# Altium integrated library TI_Logic_Little_Logic.IntLib: 1164 symbols (part 19 of 35)
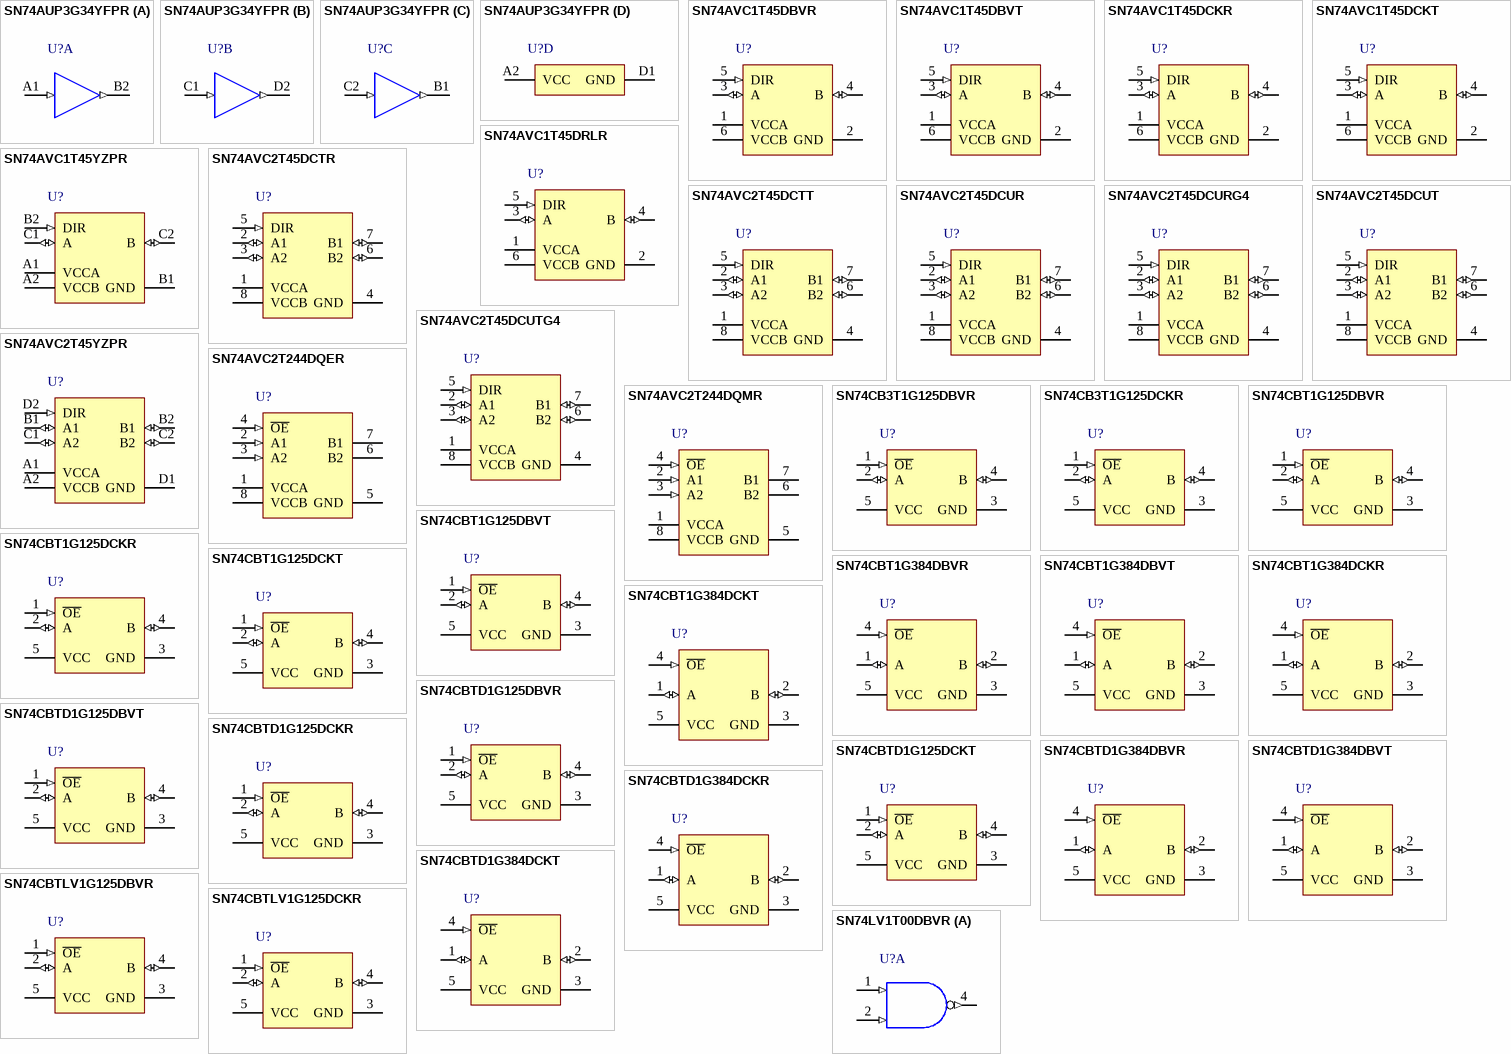
[diagram p78: symbols SN74AUP3G34YFPR to SN74LV1T00DBVR]

## SN74CBTD1G125DCKR
designator U?
Single FET Bus Switch With Level Shifting, DCK0005A, LARGE T&R; Generic Part Number: SN74CBTD1G125; Manufacturer: Texas Instruments; PartNumber: SN74CBTD1G125DCKR; VCC(Min)(V): 4.5; VCC(Max)(V): 5.5; Output Type: CMOS; Logic: True; ICC @ Nom Voltage(Max)(mA): 1.5; Input Type: CMOS/TTL; Bits(#): 1; F @ Nom Voltage(Max)(Mhz): 10; Rating: Catalog; Technology Family: CBT; Voltage(Nom)(V): 5; Schmitt Trigger: No; Sub-Family: Digital Switch/Mux/Demux; Switch Configuration: SPST; tpd @ Nom Voltage(Max)(ns): 0.25; DatasheetVersion: SCDS063L; PackageReference: DCK0005A; Supplier 1: Mouser; Supplier Part Number 1: 595-SNCBTD1G125DCKR; Supplier 2: Digi-Key; Supplier Part Number 2: 296-6476-2-ND; Supplier 3: Digi-Key; Supplier Part Number 3: 296-6476-1-ND; Supplier 4: Digi-Key; Supplier Part Number 4: 296-6476-6-ND; Operating Temperature Range(C): -40 to 85; 3-State Output: No; ComponentLink1Description: Manufacturer URL; ComponentLink1URL: http://www.ti.com/; ComponentLink2Description: Datasheet; ComponentLink2URL: http://www.ti.com/lit/ds/symlink/sn74cbtd1g125.pdf
footprint DCK0005A_N (SOT23, 5-Leads, Body 2.15x1.4mm, Pitch 0.65mm, IPC Medium Density)
footprint DCK0005A_M (SOT23, 5-Leads, Body 2.15x1.4mm, Pitch 0.65mm, IPC Low Density)
footprint DCK0005A_L (SOT23, 5-Leads, Body 2.15x1.4mm, Pitch 0.65mm, IPC High Density)
pins: 1 ~{OE} (in), 2 A (io), 3 GND (power), 4 B (io), 5 VCC (power)

## SN74CBTD1G125DCKT
designator U?
Single FET Bus Switch With Level Shifting, DCK0005A, SMALL T&R; Generic Part Number: SN74CBTD1G125; Manufacturer: Texas Instruments; PartNumber: SN74CBTD1G125DCKT; VCC(Min)(V): 4.5; VCC(Max)(V): 5.5; Output Type: CMOS; Logic: True; ICC @ Nom Voltage(Max)(mA): 1.5; Input Type: CMOS/TTL; Bits(#): 1; F @ Nom Voltage(Max)(Mhz): 10; Rating: Catalog; Technology Family: CBT; Voltage(Nom)(V): 5; Schmitt Trigger: No; Sub-Family: Digital Switch/Mux/Demux; Switch Configuration: SPST; tpd @ Nom Voltage(Max)(ns): 0.25; DatasheetVersion: SCDS063L; PackageReference: DCK0005A; Supplier 1: Mouser; Supplier Part Number 1: 595-SN74CBTD1G125DCK; Supplier 2: Digi-Key; Supplier Part Number 2: SN74CBTD1G125DCKT-ND; Operating Temperature Range(C): -40 to 85; 3-State Output: No; ComponentLink1Description: Manufacturer URL; ComponentLink1URL: http://www.ti.com/; ComponentLink2Description: Datasheet; ComponentLink2URL: http://www.ti.com/lit/ds/symlink/sn74cbtd1g125.pdf
footprint DCK0005A_N (SOT23, 5-Leads, Body 2.15x1.4mm, Pitch 0.65mm, IPC Medium Density)
footprint DCK0005A_M (SOT23, 5-Leads, Body 2.15x1.4mm, Pitch 0.65mm, IPC Low Density)
footprint DCK0005A_L (SOT23, 5-Leads, Body 2.15x1.4mm, Pitch 0.65mm, IPC High Density)
pins: 1 ~{OE} (in), 2 A (io), 3 GND (power), 4 B (io), 5 VCC (power)

## SN74CBTD1G384DBVR
designator U?
Single FET Bus Switch With Level Shifting, DBV0005A, LARGE T&R; Generic Part Number: SN74CBTD1G384; Manufacturer: Texas Instruments; PartNumber: SN74CBTD1G384DBVR; VCC(Min)(V): 4.5; VCC(Max)(V): 5.5; Output Type: CMOS; Logic: True; ICC @ Nom Voltage(Max)(mA): 1.5; Input Type: CMOS/TTL; Bits(#): 1; F @ Nom Voltage(Max)(Mhz): 10; Rating: Catalog; Technology Family: CBT; Voltage(Nom)(V): 5; Schmitt Trigger: No; Sub-Family: Digital Switch/Mux/Demux; Switch Configuration: SPST; tpd @ Nom Voltage(Max)(ns): 0.25; DatasheetVersion: SCDS066K; PackageReference: DBV0005A; Supplier 1: Mouser; Supplier Part Number 1: 595-SNCBTD1G384DBVR; Supplier 2: Digi-Key; Supplier Part Number 2: 296-12415-2-ND; Supplier 3: Digi-Key; Supplier Part Number 3: 296-12415-1-ND; Supplier 4: Digi-Key; Supplier Part Number 4: 296-12415-6-ND; Operating Temperature Range(C): -40 to 85; 3-State Output: No; ComponentLink1Description: Manufacturer URL; ComponentLink1URL: http://www.ti.com/; ComponentLink2Description: Datasheet; ComponentLink2URL: http://www.ti.com/lit/ds/symlink/sn74cbtd1g384.pdf
footprint DBV0005A_N (SOT23, 5-Leads, Body 3.05x1.75mm, Pitch 0.95mm, IPC Medium Density)
footprint DBV0005A_M (SOT23, 5-Leads, Body 3.05x1.75mm, Pitch 0.95mm, IPC Low Density)
footprint DBV0005A_L (SOT23, 5-Leads, Body 3.05x1.75mm, Pitch 0.95mm, IPC High Density)
pins: 1 A (io), 2 B (io), 3 GND (power), 4 ~{OE} (in), 5 VCC (power)

## SN74CBTD1G384DBVT
designator U?
Single FET Bus Switch With Level Shifting, DBV0005A, SMALL T&R; Generic Part Number: SN74CBTD1G384; Manufacturer: Texas Instruments; PartNumber: SN74CBTD1G384DBVT; VCC(Min)(V): 4.5; VCC(Max)(V): 5.5; Output Type: CMOS; Logic: True; ICC @ Nom Voltage(Max)(mA): 1.5; Input Type: CMOS/TTL; Bits(#): 1; F @ Nom Voltage(Max)(Mhz): 10; Rating: Catalog; Technology Family: CBT; Voltage(Nom)(V): 5; Schmitt Trigger: No; Sub-Family: Digital Switch/Mux/Demux; Switch Configuration: SPST; tpd @ Nom Voltage(Max)(ns): 0.25; DatasheetVersion: SCDS066K; PackageReference: DBV0005A; Supplier 1: Mouser; Supplier Part Number 1: 595-SN74CBTD1G384DBV; Supplier 2: Digi-Key; Supplier Part Number 2: 296-23254-2-ND; Supplier 3: Digi-Key; Supplier Part Number 3: 296-23254-1-ND; Supplier 4: Digi-Key; Supplier Part Number 4: 296-23254-6-ND; Operating Temperature Range(C): -40 to 85; 3-State Output: No; ComponentLink1Description: Manufacturer URL; ComponentLink1URL: http://www.ti.com/; ComponentLink2Description: Datasheet; ComponentLink2URL: http://www.ti.com/lit/ds/symlink/sn74cbtd1g384.pdf
footprint DBV0005A_N (SOT23, 5-Leads, Body 3.05x1.75mm, Pitch 0.95mm, IPC Medium Density)
footprint DBV0005A_M (SOT23, 5-Leads, Body 3.05x1.75mm, Pitch 0.95mm, IPC Low Density)
footprint DBV0005A_L (SOT23, 5-Leads, Body 3.05x1.75mm, Pitch 0.95mm, IPC High Density)
pins: 1 A (io), 2 B (io), 3 GND (power), 4 ~{OE} (in), 5 VCC (power)

## SN74CBTD1G384DCKR
designator U?
Single FET Bus Switch With Level Shifting, DCK0005A, LARGE T&R; Generic Part Number: SN74CBTD1G384; Manufacturer: Texas Instruments; PartNumber: SN74CBTD1G384DCKR; VCC(Min)(V): 4.5; VCC(Max)(V): 5.5; Output Type: CMOS; Logic: True; ICC @ Nom Voltage(Max)(mA): 1.5; Input Type: CMOS/TTL; Bits(#): 1; F @ Nom Voltage(Max)(Mhz): 10; Rating: Catalog; Technology Family: CBT; Voltage(Nom)(V): 5; Schmitt Trigger: No; Sub-Family: Digital Switch/Mux/Demux; Switch Configuration: SPST; tpd @ Nom Voltage(Max)(ns): 0.25; DatasheetVersion: SCDS066K; PackageReference: DCK0005A; Supplier 1: Mouser; Supplier Part Number 1: 595-SNCBTD1G384DCKR; Supplier 2: Digi-Key; Supplier Part Number 2: 296-12416-2-ND; Supplier 3: Digi-Key; Supplier Part Number 3: 296-12416-1-ND; Supplier 4: Digi-Key; Supplier Part Number 4: 296-12416-6-ND; Operating Temperature Range(C): -40 to 85; 3-State Output: No; ComponentLink1Description: Manufacturer URL; ComponentLink1URL: http://www.ti.com/; ComponentLink2Description: Datasheet; ComponentLink2URL: http://www.ti.com/lit/ds/symlink/sn74cbtd1g384.pdf
footprint DCK0005A_N (SOT23, 5-Leads, Body 2.15x1.4mm, Pitch 0.65mm, IPC Medium Density)
footprint DCK0005A_M (SOT23, 5-Leads, Body 2.15x1.4mm, Pitch 0.65mm, IPC Low Density)
footprint DCK0005A_L (SOT23, 5-Leads, Body 2.15x1.4mm, Pitch 0.65mm, IPC High Density)
pins: 1 A (io), 2 B (io), 3 GND (power), 4 ~{OE} (in), 5 VCC (power)

## SN74CBTD1G384DCKT
designator U?
Single FET Bus Switch With Level Shifting, DCK0005A, SMALL T&R; Generic Part Number: SN74CBTD1G384; Manufacturer: Texas Instruments; PartNumber: SN74CBTD1G384DCKT; VCC(Min)(V): 4.5; VCC(Max)(V): 5.5; Output Type: CMOS; Logic: True; ICC @ Nom Voltage(Max)(mA): 1.5; Input Type: CMOS/TTL; Bits(#): 1; F @ Nom Voltage(Max)(Mhz): 10; Rating: Catalog; Technology Family: CBT; Voltage(Nom)(V): 5; Schmitt Trigger: No; Sub-Family: Digital Switch/Mux/Demux; Switch Configuration: SPST; tpd @ Nom Voltage(Max)(ns): 0.25; DatasheetVersion: SCDS066K; PackageReference: DCK0005A; Supplier 1: Mouser; Supplier Part Number 1: 595-SN74CBTD1G384DCK; Supplier 2: Digi-Key; Supplier Part Number 2: SN74CBTD1G384DCKT-ND; Operating Temperature Range(C): -40 to 85; 3-State Output: No; ComponentLink1Description: Manufacturer URL; ComponentLink1URL: http://www.ti.com/; ComponentLink2Description: Datasheet; ComponentLink2URL: http://www.ti.com/lit/ds/symlink/sn74cbtd1g384.pdf
footprint DCK0005A_N (SOT23, 5-Leads, Body 2.15x1.4mm, Pitch 0.65mm, IPC Medium Density)
footprint DCK0005A_M (SOT23, 5-Leads, Body 2.15x1.4mm, Pitch 0.65mm, IPC Low Density)
footprint DCK0005A_L (SOT23, 5-Leads, Body 2.15x1.4mm, Pitch 0.65mm, IPC High Density)
pins: 1 A (io), 2 B (io), 3 GND (power), 4 ~{OE} (in), 5 VCC (power)

## SN74CBTLV1G125DBVR
designator U?
Low-Voltage Single FET Bus Switch, DBV0005A, LARGE T&R; Generic Part Number: SN74CBTLV1G125; Manufacturer: Texas Instruments; PartNumber: SN74CBTLV1G125DBVR; VCC(Min)(V): 2.3; VCC(Max)(V): 3.6; Output Type: CMOS; Logic: True; ICC @ Nom Voltage(Max)(mA): 0.01; Input Type: LV-CMOS; Bits(#): 1; F @ Nom Voltage(Max)(Mhz): 200; Rating: Catalog; Technology Family: CBTLV; Voltage(Nom)(V): 3.3; Schmitt Trigger: No; Sub-Family: Analog Switch; Switch Configuration: SPST; tpd @ Nom Voltage(Max)(ns): 0.25; DatasheetVersion: SCDS057H; PackageReference: DBV0005A; Supplier 1: Mouser; Supplier Part Number 1: 595-SNCBTLV1G125DBVR; Supplier 2: Digi-Key; Supplier Part Number 2: 296-9109-2-ND; Supplier 3: Digi-Key; Supplier Part Number 3: 296-9109-1-ND; Supplier 4: Digi-Key; Supplier Part Number 4: 296-9109-6-ND; Operating Temperature Range(C): -40 to 85; Channels(#): 1; 3-State Output: No; ComponentLink1Description: Manufacturer URL; ComponentLink1URL: http://www.ti.com/; ComponentLink2Description: Datasheet; ComponentLink2URL: http://www.ti.com/lit/ds/symlink/sn74cbtlv1g125.pdf
footprint DBV0005A_N (SOT23, 5-Leads, Body 3.05x1.75mm, Pitch 0.95mm, IPC Medium Density)
footprint DBV0005A_M (SOT23, 5-Leads, Body 3.05x1.75mm, Pitch 0.95mm, IPC Low Density)
footprint DBV0005A_L (SOT23, 5-Leads, Body 3.05x1.75mm, Pitch 0.95mm, IPC High Density)
pins: 1 ~{OE} (in), 2 A (io), 3 GND (power), 4 B (io), 5 VCC (power)

## SN74CBTLV1G125DCKR
designator U?
Low-Voltage Single FET Bus Switch, DCK0005A, LARGE T&R; Generic Part Number: SN74CBTLV1G125; Manufacturer: Texas Instruments; PartNumber: SN74CBTLV1G125DCKR; VCC(Min)(V): 2.3; VCC(Max)(V): 3.6; Output Type: CMOS; Logic: True; ICC @ Nom Voltage(Max)(mA): 0.01; Input Type: LV-CMOS; Bits(#): 1; F @ Nom Voltage(Max)(Mhz): 200; Rating: Catalog; Technology Family: CBTLV; Voltage(Nom)(V): 3.3; Schmitt Trigger: No; Sub-Family: Analog Switch; Switch Configuration: SPST; tpd @ Nom Voltage(Max)(ns): 0.25; DatasheetVersion: SCDS057H; PackageReference: DCK0005A; Supplier 1: Mouser; Supplier Part Number 1: 595-SNCBTLV1G125DCKR; Supplier 2: Digi-Key; Supplier Part Number 2: 296-9110-2-ND; Supplier 3: Digi-Key; Supplier Part Number 3: 296-9110-1-ND; Supplier 4: Digi-Key; Supplier Part Number 4: 296-9110-6-ND; Operating Temperature Range(C): -40 to 85; Channels(#): 1; 3-State Output: No; ComponentLink1Description: Manufacturer URL; ComponentLink1URL: http://www.ti.com/; ComponentLink2Description: Datasheet; ComponentLink2URL: http://www.ti.com/lit/ds/symlink/sn74cbtlv1g125.pdf
footprint DCK0005A_N (SOT23, 5-Leads, Body 2.15x1.4mm, Pitch 0.65mm, IPC Medium Density)
footprint DCK0005A_M (SOT23, 5-Leads, Body 2.15x1.4mm, Pitch 0.65mm, IPC Low Density)
footprint DCK0005A_L (SOT23, 5-Leads, Body 2.15x1.4mm, Pitch 0.65mm, IPC High Density)
pins: 1 ~{OE} (in), 2 A (io), 3 GND (power), 4 B (io), 5 VCC (power)

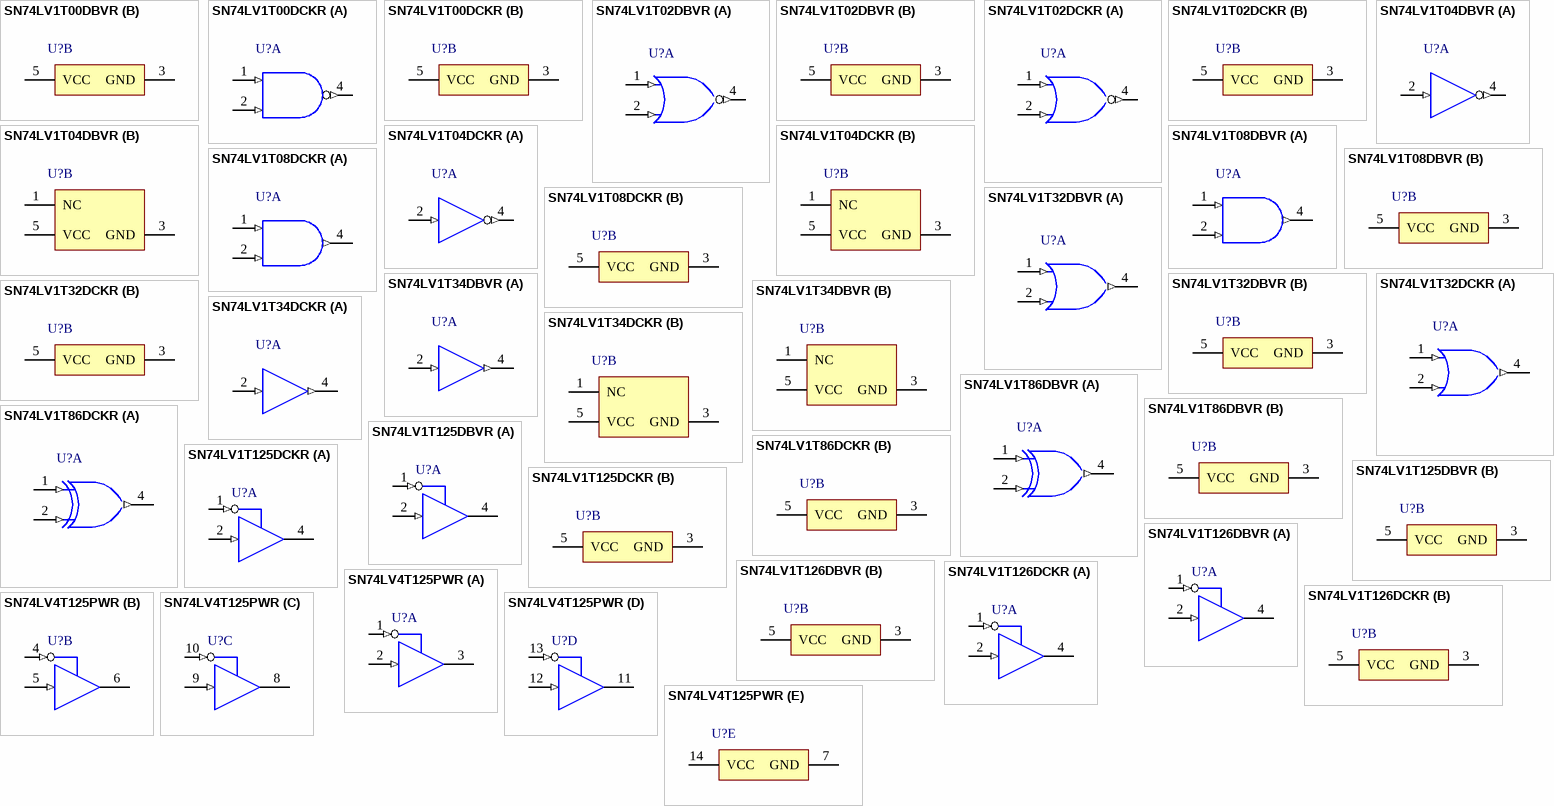
[diagram p32: symbols SN74LV1T00DBVR to SN74LV4T125PWR]

## SN74LV1T00DBVR
designator U?
Single power supply 2-input POSITIVE NAND gate logic level shifter, DBV0005A, LARGE T&R; Generic Part Number: SN74LV1T00; Manufacturer: Texas Instruments; PartNumber: SN74LV1T00DBVR; VCC(Min)(V): 1.6; VCC(Max)(V): 5.5; Output Type: CMOS; Logic: True; ICC @ Nom Voltage(Max)(mA): 0.01; Input Type: TTL; Bits(#): 1; F @ Nom Voltage(Max)(Mhz): 50; Rating: Catalog; Technology Family: LV1T; Voltage(Nom)(V): 1.8,2.5,3.3,5.5; Schmitt Trigger: No; Output Drive (IOL/IOH)(Max)(mA): 8/-8; Special Features: 1.8V to 3.3V Up Translation,3.3V to 1.8V Down Translation,5V Input Tolerant; 3-State Output: Yes; tpd @ Nom Voltage(Max)(ns): 13,7.5,5.5,7.0; DatasheetVersion: SCLS737B; PackageReference: DBV0005A; Supplier 1: Mouser; Supplier Part Number 1: 595-SN74LV1T00DBVR; Supplier 2: Digi-Key; Supplier Part Number 2: 296-40543-2-ND; Supplier 3: Digi-Key; Supplier Part Number 3: 296-40543-1-ND; Supplier 4: Digi-Key; Supplier Part Number 4: 296-40543-6-ND; Operating Temperature Range(C): -40 to 125; Sub-Family: NAND Gate; ComponentLink1Description: Manufacturer URL; ComponentLink1URL: http://www.ti.com/; ComponentLink2Description: Datasheet; ComponentLink2URL: http://www.ti.com/lit/ds/symlink/sn74lv1t00.pdf
footprint DBV0005A_N (SOT23, 5-Leads, Body 3.05x1.75mm, Pitch 0.95mm, IPC Medium Density)
footprint DBV0005A_M (SOT23, 5-Leads, Body 3.05x1.75mm, Pitch 0.95mm, IPC Low Density)
footprint DBV0005A_L (SOT23, 5-Leads, Body 3.05x1.75mm, Pitch 0.95mm, IPC High Density)
part A pins: 1 A (in) "Input A", 2 B (in) "Input B", 4 Y (out) "Output Y"
part B pins: 3 GND (power) "Ground Pin", 5 VCC (power) "Power Pin"

## SN74LV1T00DCKR
designator U?
Single power supply 2-input POSITIVE NAND gate logic level shifter, DCK0005A, LARGE T&R; Generic Part Number: SN74LV1T00; Manufacturer: Texas Instruments; PartNumber: SN74LV1T00DCKR; VCC(Min)(V): 1.6; VCC(Max)(V): 5.5; Output Type: CMOS; Logic: True; ICC @ Nom Voltage(Max)(mA): 0.01; Input Type: TTL; Bits(#): 1; F @ Nom Voltage(Max)(Mhz): 50; Rating: Catalog; Technology Family: LV1T; Voltage(Nom)(V): 1.8,2.5,3.3,5.5; Schmitt Trigger: No; Output Drive (IOL/IOH)(Max)(mA): 8/-8; Special Features: 1.8V to 3.3V Up Translation,3.3V to 1.8V Down Translation,5V Input Tolerant; 3-State Output: Yes; tpd @ Nom Voltage(Max)(ns): 13,7.5,5.5,7.0; DatasheetVersion: SCLS737B; PackageReference: DCK0005A; Supplier 1: Mouser; Supplier Part Number 1: 595-SN74LV1T00DCKR; Supplier 2: Digi-Key; Supplier Part Number 2: 296-40544-2-ND; Supplier 3: Digi-Key; Supplier Part Number 3: 296-40544-1-ND; Supplier 4: Digi-Key; Supplier Part Number 4: 296-40544-6-ND; Operating Temperature Range(C): -40 to 125; Sub-Family: NAND Gate; ComponentLink1Description: Manufacturer URL; ComponentLink1URL: http://www.ti.com/; ComponentLink2Description: Datasheet; ComponentLink2URL: http://www.ti.com/lit/ds/symlink/sn74lv1t00.pdf
footprint DCK0005A_N (SOT23, 5-Leads, Body 2.15x1.4mm, Pitch 0.65mm, IPC Medium Density)
footprint DCK0005A_M (SOT23, 5-Leads, Body 2.15x1.4mm, Pitch 0.65mm, IPC Low Density)
footprint DCK0005A_L (SOT23, 5-Leads, Body 2.15x1.4mm, Pitch 0.65mm, IPC High Density)
part A pins: 1 A (in) "Input A", 2 B (in) "Input B", 4 Y (out) "Output Y"
part B pins: 3 GND (power) "Ground Pin", 5 VCC (power) "Power Pin"

## SN74LV1T02DBVR
designator U?
Single Power Supply 2-input POSITIVE NOR GATE Logic Level Shifter, DBV0005A, LARGE T&R; Generic Part Number: SN74LV1T02; Manufacturer: Texas Instruments; PartNumber: SN74LV1T02DBVR; VCC(Min)(V): 1.6; VCC(Max)(V): 5.5; Output Type: CMOS; Logic: True; ICC @ Nom Voltage(Max)(mA): 0.01; Input Type: TTL; Bits(#): 1; F @ Nom Voltage(Max)(Mhz): 50; Rating: Catalog; Technology Family: LV1T; Voltage(Nom)(V): 1.8,2.5,3.3,5.5; Schmitt Trigger: No; Output Drive (IOL/IOH)(Max)(mA): 8/-8; Special Features: 1.8V to 3.3V Up Translation,3.3V to 1.8V Down Translation,5V Input Tolerant; 3-State Output: Yes; tpd @ Nom Voltage(Max)(ns): 13,7.5,5.5,7.0; DatasheetVersion: SCLS740A; PackageReference: DBV0005A; Supplier 1: Mouser; Supplier Part Number 1: 595-SN74LV1T02DBVR; Supplier 2: Digi-Key; Supplier Part Number 2: 296-37200-2-ND; Supplier 3: Digi-Key; Supplier Part Number 3: 296-37200-1-ND; Supplier 4: Digi-Key; Supplier Part Number 4: 296-37200-6-ND; Operating Temperature Range(C): -40 to 125; Sub-Family: NOR Gate; ComponentLink1Description: Manufacturer URL; ComponentLink1URL: http://www.ti.com/; ComponentLink2Description: Datasheet; ComponentLink2URL: http://www.ti.com/lit/ds/symlink/sn74lv1t02.pdf
footprint DBV0005A_N (SOT23, 5-Leads, Body 3.05x1.75mm, Pitch 0.95mm, IPC Medium Density)
footprint DBV0005A_M (SOT23, 5-Leads, Body 3.05x1.75mm, Pitch 0.95mm, IPC Low Density)
footprint DBV0005A_L (SOT23, 5-Leads, Body 3.05x1.75mm, Pitch 0.95mm, IPC High Density)
part A pins: 1 A (in) "Input A", 2 B (in) "Input B", 4 Y (out) "Output Y"
part B pins: 3 GND (power) "Ground Pin", 5 VCC (power) "Power Pin"

## SN74LV1T02DCKR
designator U?
Single Power Supply 2-input POSITIVE NOR GATE Logic Level Shifter, DCK0005A, LARGE T&R; Generic Part Number: SN74LV1T02; Manufacturer: Texas Instruments; PartNumber: SN74LV1T02DCKR; VCC(Min)(V): 1.6; VCC(Max)(V): 5.5; Output Type: CMOS; Logic: True; ICC @ Nom Voltage(Max)(mA): 0.01; Input Type: TTL; Bits(#): 1; F @ Nom Voltage(Max)(Mhz): 50; Rating: Catalog; Technology Family: LV1T; Voltage(Nom)(V): 1.8,2.5,3.3,5.5; Schmitt Trigger: No; Output Drive (IOL/IOH)(Max)(mA): 8/-8; Special Features: 1.8V to 3.3V Up Translation,3.3V to 1.8V Down Translation,5V Input Tolerant; 3-State Output: Yes; tpd @ Nom Voltage(Max)(ns): 13,7.5,5.5,7.0; DatasheetVersion: SCLS740A; PackageReference: DCK0005A; Supplier 1: Mouser; Supplier Part Number 1: 595-SN74LV1T02DCKR; Supplier 2: Digi-Key; Supplier Part Number 2: 296-37240-2-ND; Supplier 3: Digi-Key; Supplier Part Number 3: 296-37240-1-ND; Supplier 4: Digi-Key; Supplier Part Number 4: 296-37240-6-ND; Operating Temperature Range(C): -40 to 125; Sub-Family: NOR Gate; ComponentLink1Description: Manufacturer URL; ComponentLink1URL: http://www.ti.com/; ComponentLink2Description: Datasheet; ComponentLink2URL: http://www.ti.com/lit/ds/symlink/sn74lv1t02.pdf
footprint DCK0005A_N (SOT23, 5-Leads, Body 2.15x1.4mm, Pitch 0.65mm, IPC Medium Density)
footprint DCK0005A_M (SOT23, 5-Leads, Body 2.15x1.4mm, Pitch 0.65mm, IPC Low Density)
footprint DCK0005A_L (SOT23, 5-Leads, Body 2.15x1.4mm, Pitch 0.65mm, IPC High Density)
part A pins: 1 A (in) "Input A", 2 B (in) "Input B", 4 Y (out) "Output Y"
part B pins: 3 GND (power) "Ground Pin", 5 VCC (power) "Power Pin"

## SN74LV1T04DBVR
designator U?
Single Power Supply INVERTER Gate logic level shifter, DBV0005A, LARGE T&R; Generic Part Number: SN74LV1T04; Manufacturer: Texas Instruments; PartNumber: SN74LV1T04DBVR; VCC(Min)(V): 1.6; VCC(Max)(V): 5.5; Output Type: CMOS; Logic: Inverting; ICC @ Nom Voltage(Max)(mA): 0.01; Input Type: TTL; Bits(#): 1; F @ Nom Voltage(Max)(Mhz): 50; Rating: Catalog; Technology Family: LV1T; Voltage(Nom)(V): 1.8,2.5,3.3,5.5; Schmitt Trigger: No; Output Drive (IOL/IOH)(Max)(mA): 8/-8; Sub-Family: Inverting Buffer/Driver; Special Features: 1.8V to 3.3V Up Translation,3.3V to 1.8V Down Translation,5V Input Tolerant; 3-State Output: Yes; tpd @ Nom Voltage(Max)(ns): 13,7.5,5.5,7.0; DatasheetVersion: SCLS738B; PackageReference: DBV0005A; Supplier 1: Mouser; Supplier Part Number 1: 595-SN74LV1T04DBVR; Supplier 2: Digi-Key; Supplier Part Number 2: 296-39208-2-ND; Supplier 3: Digi-Key; Supplier Part Number 3: 296-39208-1-ND; Supplier 4: Digi-Key; Supplier Part Number 4: 296-39208-6-ND; Operating Temperature Range(C): -40 to 125; ComponentLink1Description: Manufacturer URL; ComponentLink1URL: http://www.ti.com/; ComponentLink2Description: Datasheet; ComponentLink2URL: http://www.ti.com/lit/ds/symlink/sn74lv1t04.pdf
footprint DBV0005A_N (SOT23, 5-Leads, Body 3.05x1.75mm, Pitch 0.95mm, IPC Medium Density)
footprint DBV0005A_M (SOT23, 5-Leads, Body 3.05x1.75mm, Pitch 0.95mm, IPC Low Density)
footprint DBV0005A_L (SOT23, 5-Leads, Body 3.05x1.75mm, Pitch 0.95mm, IPC High Density)
part A pins: 2 A (in) "Input A", 4 Y (out) "Output Y"
part B pins: 1 NC "Ground", 3 GND (power) "Ground Pin", 5 VCC (power) "Power Pin"

## SN74LV1T04DCKR
designator U?
Single Power Supply INVERTER Gate logic level shifter, DCK0005A, LARGE T&R; Generic Part Number: SN74LV1T04; Manufacturer: Texas Instruments; PartNumber: SN74LV1T04DCKR; VCC(Min)(V): 1.6; VCC(Max)(V): 5.5; Output Type: CMOS; Logic: Inverting; ICC @ Nom Voltage(Max)(mA): 0.01; Input Type: TTL; Bits(#): 1; F @ Nom Voltage(Max)(Mhz): 50; Rating: Catalog; Technology Family: LV1T; Voltage(Nom)(V): 1.8,2.5,3.3,5.5; Schmitt Trigger: No; Output Drive (IOL/IOH)(Max)(mA): 8/-8; Sub-Family: Inverting Buffer/Driver; Special Features: 1.8V to 3.3V Up Translation,3.3V to 1.8V Down Translation,5V Input Tolerant; 3-State Output: Yes; tpd @ Nom Voltage(Max)(ns): 13,7.5,5.5,7.0; DatasheetVersion: SCLS738B; PackageReference: DCK0005A; Supplier 1: Mouser; Supplier Part Number 1: 595-SN74LV1T04DCKR; Supplier 2: Digi-Key; Supplier Part Number 2: 296-39209-2-ND; Supplier 3: Digi-Key; Supplier Part Number 3: 296-39209-1-ND; Supplier 4: Digi-Key; Supplier Part Number 4: 296-39209-6-ND; Operating Temperature Range(C): -40 to 125; ComponentLink1Description: Manufacturer URL; ComponentLink1URL: http://www.ti.com/; ComponentLink2Description: Datasheet; ComponentLink2URL: http://www.ti.com/lit/ds/symlink/sn74lv1t04.pdf
footprint DCK0005A_N (SOT23, 5-Leads, Body 2.15x1.4mm, Pitch 0.65mm, IPC Medium Density)
footprint DCK0005A_M (SOT23, 5-Leads, Body 2.15x1.4mm, Pitch 0.65mm, IPC Low Density)
footprint DCK0005A_L (SOT23, 5-Leads, Body 2.15x1.4mm, Pitch 0.65mm, IPC High Density)
part A pins: 2 A (in) "Input A", 4 Y (out) "Output Y"
part B pins: 1 NC "Ground", 3 GND (power) "Ground Pin", 5 VCC (power) "Power Pin"

## SN74LV1T08DBVR
designator U?
Single power supply 2-input POSITIVE AND Gate with Logic Level Shifter, DBV0005A, LARGE T&R; Generic Part Number: SN74LV1T08; Manufacturer: Texas Instruments; PartNumber: SN74LV1T08DBVR; VCC(Min)(V): 1.6; VCC(Max)(V): 5.5; Output Type: CMOS; Logic: True; ICC @ Nom Voltage(Max)(mA): 0.01; Input Type: TTL; Bits(#): 1; F @ Nom Voltage(Max)(Mhz): 50; Rating: Catalog; Technology Family: LV1T; Voltage(Nom)(V): 1.8,2.5,3.3,5.5; Schmitt Trigger: No; Output Drive (IOL/IOH)(Max)(mA): 8/-8; Special Features: 1.8V to 3.3V Up Translation,3.3V to 1.8V Down Translation,5V Input Tolerant; 3-State Output: Yes; tpd @ Nom Voltage(Max)(ns): 13,7.5,5.5,7.0; DatasheetVersion: SCLS739B; PackageReference: DBV0005A; Supplier 1: Mouser; Supplier Part Number 1: 595-SN74LV1T08DBVR; Supplier 2: Digi-Key; Supplier Part Number 2: 296-39210-2-ND; Supplier 3: Digi-Key; Supplier Part Number 3: 296-39210-1-ND; Supplier 4: Digi-Key; Supplier Part Number 4: 296-39210-6-ND; Operating Temperature Range(C): -40 to 125; Sub-Family: AND Gate; ComponentLink1Description: Manufacturer URL; ComponentLink1URL: http://www.ti.com/; ComponentLink2Description: Datasheet; ComponentLink2URL: http://www.ti.com/lit/ds/symlink/sn74lv1t08.pdf
footprint DBV0005A_N (SOT23, 5-Leads, Body 3.05x1.75mm, Pitch 0.95mm, IPC Medium Density)
footprint DBV0005A_M (SOT23, 5-Leads, Body 3.05x1.75mm, Pitch 0.95mm, IPC Low Density)
footprint DBV0005A_L (SOT23, 5-Leads, Body 3.05x1.75mm, Pitch 0.95mm, IPC High Density)
part A pins: 1 A (in) "Input A", 2 B (in) "Input B", 4 Y (out) "Output Y"
part B pins: 3 GND (power) "Ground Pin", 5 VCC (power) "Power Pin"

## SN74LV1T08DCKR
designator U?
Single power supply 2-input POSITIVE AND Gate with Logic Level Shifter, DCK0005A, LARGE T&R; Generic Part Number: SN74LV1T08; Manufacturer: Texas Instruments; PartNumber: SN74LV1T08DCKR; VCC(Min)(V): 1.6; VCC(Max)(V): 5.5; Output Type: CMOS; Logic: True; ICC @ Nom Voltage(Max)(mA): 0.01; Input Type: TTL; Bits(#): 1; F @ Nom Voltage(Max)(Mhz): 50; Rating: Catalog; Technology Family: LV1T; Voltage(Nom)(V): 1.8,2.5,3.3,5.5; Schmitt Trigger: No; Output Drive (IOL/IOH)(Max)(mA): 8/-8; Special Features: 1.8V to 3.3V Up Translation,3.3V to 1.8V Down Translation,5V Input Tolerant; 3-State Output: Yes; tpd @ Nom Voltage(Max)(ns): 13,7.5,5.5,7.0; DatasheetVersion: SCLS739B; PackageReference: DCK0005A; Supplier 1: Mouser; Supplier Part Number 1: 595-SN74LV1T08DCKR; Supplier 2: Digi-Key; Supplier Part Number 2: 296-39211-2-ND; Supplier 3: Digi-Key; Supplier Part Number 3: 296-39211-1-ND; Supplier 4: Digi-Key; Supplier Part Number 4: 296-39211-6-ND; Operating Temperature Range(C): -40 to 125; Sub-Family: AND Gate; ComponentLink1Description: Manufacturer URL; ComponentLink1URL: http://www.ti.com/; ComponentLink2Description: Datasheet; ComponentLink2URL: http://www.ti.com/lit/ds/symlink/sn74lv1t08.pdf
footprint DCK0005A_N (SOT23, 5-Leads, Body 2.15x1.4mm, Pitch 0.65mm, IPC Medium Density)
footprint DCK0005A_M (SOT23, 5-Leads, Body 2.15x1.4mm, Pitch 0.65mm, IPC Low Density)
footprint DCK0005A_L (SOT23, 5-Leads, Body 2.15x1.4mm, Pitch 0.65mm, IPC High Density)
part A pins: 1 A (in) "Input A", 2 B (in) "Input B", 4 Y (out) "Output Y"
part B pins: 3 GND (power) "Ground Pin", 5 VCC (power) "Power Pin"

## SN74LV1T32DBVR
designator U?
Single Power Supply 2-INPUT POSITIVE OR GATE with Logic Level Shifter, DBV0005A, LARGE T&R; Generic Part Number: SN74LV1T32; Manufacturer: Texas Instruments; PartNumber: SN74LV1T32DBVR; VCC(Min)(V): 1.6; VCC(Max)(V): 5.5; Output Type: CMOS; Logic: True; ICC @ Nom Voltage(Max)(mA): 0.01; Input Type: TTL; Bits(#): 1; F @ Nom Voltage(Max)(Mhz): 50; Rating: Catalog; Technology Family: LV1T; Voltage(Nom)(V): 1.8,2.5,3.3,5.5; Schmitt Trigger: No; Output Drive (IOL/IOH)(Max)(mA): 8/-8; Sub-Family: OR Gate; Special Features: 1.8V to 3.3V Up Translation,3.3V to 1.8V Down Translation,5V Input Tolerant; 3-State Output: Yes; tpd @ Nom Voltage(Max)(ns): 13,7.5,5.5,7.0; DatasheetVersion: SCLS741A; PackageReference: DBV0005A; Supplier 1: Mouser; Supplier Part Number 1: 595-SN74LV1T32DBVR; Supplier 2: Digi-Key; Supplier Part Number 2: 296-37201-2-ND; Supplier 3: Digi-Key; Supplier Part Number 3: 296-37201-1-ND; Supplier 4: Digi-Key; Supplier Part Number 4: 296-37201-6-ND; Operating Temperature Range(C): -40 to 125; ComponentLink1Description: Manufacturer URL; ComponentLink1URL: http://www.ti.com/; ComponentLink2Description: Datasheet; ComponentLink2URL: http://www.ti.com/lit/ds/symlink/sn74lv1t32.pdf
footprint DBV0005A_N (SOT23, 5-Leads, Body 3.05x1.75mm, Pitch 0.95mm, IPC Medium Density)
footprint DBV0005A_M (SOT23, 5-Leads, Body 3.05x1.75mm, Pitch 0.95mm, IPC Low Density)
footprint DBV0005A_L (SOT23, 5-Leads, Body 3.05x1.75mm, Pitch 0.95mm, IPC High Density)
part A pins: 1 A (in) "Input A", 2 B (in) "Input B", 4 Y (out) "Output Y"
part B pins: 3 GND (power) "Ground Pin", 5 VCC (power) "Power Pin"

## SN74LV1T32DCKR
designator U?
Single Power Supply 2-INPUT POSITIVE OR GATE with Logic Level Shifter, DCK0005A, LARGE T&R; Generic Part Number: SN74LV1T32; Manufacturer: Texas Instruments; PartNumber: SN74LV1T32DCKR; VCC(Min)(V): 1.6; VCC(Max)(V): 5.5; Output Type: CMOS; Logic: True; ICC @ Nom Voltage(Max)(mA): 0.01; Input Type: TTL; Bits(#): 1; F @ Nom Voltage(Max)(Mhz): 50; Rating: Catalog; Technology Family: LV1T; Voltage(Nom)(V): 1.8,2.5,3.3,5.5; Schmitt Trigger: No; Output Drive (IOL/IOH)(Max)(mA): 8/-8; Sub-Family: OR Gate; Special Features: 1.8V to 3.3V Up Translation,3.3V to 1.8V Down Translation,5V Input Tolerant; 3-State Output: Yes; tpd @ Nom Voltage(Max)(ns): 13,7.5,5.5,7.0; DatasheetVersion: SCLS741A; PackageReference: DCK0005A; Supplier 1: Mouser; Supplier Part Number 1: 595-SN74LV1T32DCKR; Supplier 2: Digi-Key; Supplier Part Number 2: 296-37202-2-ND; Supplier 3: Digi-Key; Supplier Part Number 3: 296-37202-1-ND; Supplier 4: Digi-Key; Supplier Part Number 4: 296-37202-6-ND; Operating Temperature Range(C): -40 to 125; ComponentLink1Description: Manufacturer URL; ComponentLink1URL: http://www.ti.com/; ComponentLink2Description: Datasheet; ComponentLink2URL: http://www.ti.com/lit/ds/symlink/sn74lv1t32.pdf
footprint DCK0005A_N (SOT23, 5-Leads, Body 2.15x1.4mm, Pitch 0.65mm, IPC Medium Density)
footprint DCK0005A_M (SOT23, 5-Leads, Body 2.15x1.4mm, Pitch 0.65mm, IPC Low Density)
footprint DCK0005A_L (SOT23, 5-Leads, Body 2.15x1.4mm, Pitch 0.65mm, IPC High Density)
part A pins: 1 A (in) "Input A", 2 B (in) "Input B", 4 Y (out) "Output Y"
part B pins: 3 GND (power) "Ground Pin", 5 VCC (power) "Power Pin"

## SN74LV1T34DBVR
designator U?
Single Power Supply BUFFER Logic Level Shifter (no enable), DBV0005A, LARGE T&R; Generic Part Number: SN74LV1T34; Manufacturer: Texas Instruments; PartNumber: SN74LV1T34DBVR; VCC(Min)(V): 1.6; VCC(Max)(V): 5.5; Output Type: CMOS; ICC @ Nom Voltage(Max)(mA): 0.01; Input Type: TTL; Bits(#): 1; F @ Nom Voltage(Max)(Mhz): 50; Rating: Catalog; Technology Family: LV1T; Voltage(Nom)(V): 1.8,2.5,3.3,5.5; Output Drive (IOL/IOH)(Max)(mA): 8/-8; tpd @ Nom Voltage(Max)(ns): 14.5,9.5,8.0,6.5; Logic: True; Sub-Family: Non-Inverting Buffer/Driver; Special Features: 1.8V to 3.3V Up Translation,3.3V to 1.8V Down Translation,5V Input Tolerant; 3-State Output: Yes; DatasheetVersion: SCLS743A; PackageReference: DBV0005A; Supplier 1: Mouser; Supplier Part Number 1: 595-SN74LV1T34DBVR; Supplier 2: Digi-Key; Supplier Part Number 2: 296-37176-2-ND; Supplier 3: Digi-Key; Supplier Part Number 3: 296-37176-1-ND; Supplier 4: Digi-Key; Supplier Part Number 4: 296-37176-6-ND; Operating Temperature Range(C): -40 to 125; Schmitt Trigger: No; ComponentLink1Description: Manufacturer URL; ComponentLink1URL: http://www.ti.com/; ComponentLink2Description: Datasheet; ComponentLink2URL: http://www.ti.com/lit/ds/symlink/sn74lv1t34.pdf
footprint DBV0005A_N (SOT23, 5-Leads, Body 3.05x1.75mm, Pitch 0.95mm, IPC Medium Density)
footprint DBV0005A_M (SOT23, 5-Leads, Body 3.05x1.75mm, Pitch 0.95mm, IPC Low Density)
footprint DBV0005A_L (SOT23, 5-Leads, Body 3.05x1.75mm, Pitch 0.95mm, IPC High Density)
part A pins: 2 A (in) "Input", 4 Y (out) "Output"
part B pins: 1 NC "Ground", 3 GND (power) "Ground Pin", 5 VCC (power) "Power Pin"

## SN74LV1T34DCKR
designator U?
Single Power Supply BUFFER Logic Level Shifter (no enable), DCK0005A, LARGE T&R; Generic Part Number: SN74LV1T34; Manufacturer: Texas Instruments; PartNumber: SN74LV1T34DCKR; VCC(Min)(V): 1.6; VCC(Max)(V): 5.5; Output Type: CMOS; ICC @ Nom Voltage(Max)(mA): 0.01; Input Type: TTL; Bits(#): 1; F @ Nom Voltage(Max)(Mhz): 50; Rating: Catalog; Technology Family: LV1T; Voltage(Nom)(V): 1.8,2.5,3.3,5.5; Output Drive (IOL/IOH)(Max)(mA): 8/-8; tpd @ Nom Voltage(Max)(ns): 14.5,9.5,8.0,6.5; Logic: True; Sub-Family: Non-Inverting Buffer/Driver; Special Features: 1.8V to 3.3V Up Translation,3.3V to 1.8V Down Translation,5V Input Tolerant; 3-State Output: Yes; DatasheetVersion: SCLS743A; PackageReference: DCK0005A; Supplier 1: Mouser; Supplier Part Number 1: 595-SN74LV1T34DCKR; Supplier 2: Digi-Key; Supplier Part Number 2: 296-37177-2-ND; Supplier 3: Digi-Key; Supplier Part Number 3: 296-37177-1-ND; Supplier 4: Digi-Key; Supplier Part Number 4: 296-37177-6-ND; Operating Temperature Range(C): -40 to 125; Schmitt Trigger: No; ComponentLink1Description: Manufacturer URL; ComponentLink1URL: http://www.ti.com/; ComponentLink2Description: Datasheet; ComponentLink2URL: http://www.ti.com/lit/ds/symlink/sn74lv1t34.pdf
footprint DCK0005A_N (SOT23, 5-Leads, Body 2.15x1.4mm, Pitch 0.65mm, IPC Medium Density)
footprint DCK0005A_M (SOT23, 5-Leads, Body 2.15x1.4mm, Pitch 0.65mm, IPC Low Density)
footprint DCK0005A_L (SOT23, 5-Leads, Body 2.15x1.4mm, Pitch 0.65mm, IPC High Density)
part A pins: 2 A (in) "Input", 4 Y (out) "Output"
part B pins: 1 NC "Ground", 3 GND (power) "Ground Pin", 5 VCC (power) "Power Pin"

## SN74LV1T86DBVR
designator U?
Single Power Supply 2-INPUT EXCLUSIVE OR (XOR) GATE Logic Level Shifter, DBV0005A, LARGE T&R; Generic Part Number: SN74LV1T86; Manufacturer: Texas Instruments; PartNumber: SN74LV1T86DBVR; VCC(Min)(V): 1.6; VCC(Max)(V): 5.5; Output Type: CMOS; Logic: True; ICC @ Nom Voltage(Max)(mA): 0.01; Input Type: TTL; Bits(#): 1; F @ Nom Voltage(Max)(Mhz): 50; Rating: Catalog; Technology Family: LV1T; Voltage(Nom)(V): 1.8,2.5,3.3,5.5; Schmitt Trigger: No; Output Drive (IOL/IOH)(Max)(mA): 8/-8; Sub-Family: XOR Gate; Special Features: 1.8V to 3.3V Up Translation,3.3V to 1.8V Down Translation,5V Input Tolerant; 3-State Output: Yes; tpd @ Nom Voltage(Max)(ns): 13,7.5,5.5,7.0; DatasheetVersion: SCLS742A; PackageReference: DBV0005A; Supplier 1: Mouser; Supplier Part Number 1: 595-SN74LV1T86DBVR; Supplier 2: Digi-Key; Supplier Part Number 2: 296-37241-2-ND; Supplier 3: Digi-Key; Supplier Part Number 3: 296-37241-1-ND; Supplier 4: Digi-Key; Supplier Part Number 4: 296-37241-6-ND; Operating Temperature Range(C): -40 to 125; ComponentLink1Description: Manufacturer URL; ComponentLink1URL: http://www.ti.com/; ComponentLink2Description: Datasheet; ComponentLink2URL: http://www.ti.com/lit/ds/symlink/sn74lv1t86.pdf
footprint DBV0005A_N (SOT23, 5-Leads, Body 3.05x1.75mm, Pitch 0.95mm, IPC Medium Density)
footprint DBV0005A_M (SOT23, 5-Leads, Body 3.05x1.75mm, Pitch 0.95mm, IPC Low Density)
footprint DBV0005A_L (SOT23, 5-Leads, Body 3.05x1.75mm, Pitch 0.95mm, IPC High Density)
part A pins: 1 A (in) "Input A", 2 B (in) "Input B", 4 Y (out) "Output Y"
part B pins: 3 GND (power) "Ground Pin", 5 VCC (power) "Power Pin"

## SN74LV1T86DCKR
designator U?
Single Power Supply 2-INPUT EXCLUSIVE OR (XOR) GATE Logic Level Shifter, DCK0005A, LARGE T&R; Generic Part Number: SN74LV1T86; Manufacturer: Texas Instruments; PartNumber: SN74LV1T86DCKR; VCC(Min)(V): 1.6; VCC(Max)(V): 5.5; Output Type: CMOS; Logic: True; ICC @ Nom Voltage(Max)(mA): 0.01; Input Type: TTL; Bits(#): 1; F @ Nom Voltage(Max)(Mhz): 50; Rating: Catalog; Technology Family: LV1T; Voltage(Nom)(V): 1.8,2.5,3.3,5.5; Schmitt Trigger: No; Output Drive (IOL/IOH)(Max)(mA): 8/-8; Sub-Family: XOR Gate; Special Features: 1.8V to 3.3V Up Translation,3.3V to 1.8V Down Translation,5V Input Tolerant; 3-State Output: Yes; tpd @ Nom Voltage(Max)(ns): 13,7.5,5.5,7.0; DatasheetVersion: SCLS742A; PackageReference: DCK0005A; Supplier 1: Mouser; Supplier Part Number 1: 595-SN74LV1T86DCKR; Supplier 2: Digi-Key; Supplier Part Number 2: 296-37203-2-ND; Supplier 3: Digi-Key; Supplier Part Number 3: 296-37203-1-ND; Supplier 4: Digi-Key; Supplier Part Number 4: 296-37203-6-ND; Operating Temperature Range(C): -40 to 125; ComponentLink1Description: Manufacturer URL; ComponentLink1URL: http://www.ti.com/; ComponentLink2Description: Datasheet; ComponentLink2URL: http://www.ti.com/lit/ds/symlink/sn74lv1t86.pdf
footprint DCK0005A_N (SOT23, 5-Leads, Body 2.15x1.4mm, Pitch 0.65mm, IPC Medium Density)
footprint DCK0005A_M (SOT23, 5-Leads, Body 2.15x1.4mm, Pitch 0.65mm, IPC Low Density)
footprint DCK0005A_L (SOT23, 5-Leads, Body 2.15x1.4mm, Pitch 0.65mm, IPC High Density)
part A pins: 1 A (in) "Input A", 2 B (in) "Input B", 4 Y (out) "Output Y"
part B pins: 3 GND (power) "Ground Pin", 5 VCC (power) "Power Pin"

## SN74LV1T125DBVR
designator U?
Single Power Supply, Single BUFFER GATE w/ 3-State Output (active low enable), DBV0005A, LARGE T&R; Generic Part Number: SN74LV1T125; Manufacturer: Texas Instruments; PartNumber: SN74LV1T125DBVR; VCC(Min)(V): 1.6; VCC(Max)(V): 5.5; Output Type: CMOS; ICC @ Nom Voltage(Max)(mA): 0.01; Input Type: TTL; Bits(#): 1; F @ Nom Voltage(Max)(Mhz): 50; Rating: Catalog; Technology Family: LV1T; Voltage(Nom)(V): 1.8,2.5,3.3,5.5; Schmitt Trigger: No; Output Drive (IOL/IOH)(Max)(mA): 8/-8; tpd @ Nom Voltage(Max)(ns): 14.5,9.5,8.0,6.5; Logic: True; Sub-Family: Non-Inverting Buffer/Driver; Special Features: 1.8V to 3.3V Up Translation,3.3V to 1.8V Down Translation,5V Input Tolerant; 3-State Output: Yes; DatasheetVersion: SCLS745A; PackageReference: DBV0005A; Supplier 1: Mouser; Supplier Part Number 1: 595-SN74LV1T125DBVR; Supplier 2: Digi-Key; Supplier Part Number 2: 296-37172-2-ND; Supplier 3: Digi-Key; Supplier Part Number 3: 296-37172-1-ND; Supplier 4: Digi-Key; Supplier Part Number 4: 296-37172-6-ND; Operating Temperature Range(C): -40 to 125; ComponentLink1Description: Manufacturer URL; ComponentLink1URL: http://www.ti.com/; ComponentLink2Description: Datasheet; ComponentLink2URL: http://www.ti.com/lit/ds/symlink/sn74lv1t125.pdf
footprint DBV0005A_N (SOT23, 5-Leads, Body 3.05x1.75mm, Pitch 0.95mm, IPC Medium Density)
footprint DBV0005A_M (SOT23, 5-Leads, Body 3.05x1.75mm, Pitch 0.95mm, IPC Low Density)
footprint DBV0005A_L (SOT23, 5-Leads, Body 3.05x1.75mm, Pitch 0.95mm, IPC High Density)
part A pins: 1 ~{OE} (in), 2 A (in), 4 Y (hiz)
part B pins: 3 GND (power), 5 VCC (power)

## SN74LV1T125DCKR
designator U?
Single Power Supply, Single BUFFER GATE w/ 3-State Output (active low enable), DCK0005A, LARGE T&R; Generic Part Number: SN74LV1T125; Manufacturer: Texas Instruments; PartNumber: SN74LV1T125DCKR; VCC(Min)(V): 1.6; VCC(Max)(V): 5.5; Output Type: CMOS; ICC @ Nom Voltage(Max)(mA): 0.01; Input Type: TTL; Bits(#): 1; F @ Nom Voltage(Max)(Mhz): 50; Rating: Catalog; Technology Family: LV1T; Voltage(Nom)(V): 1.8,2.5,3.3,5.5; Schmitt Trigger: No; Output Drive (IOL/IOH)(Max)(mA): 8/-8; tpd @ Nom Voltage(Max)(ns): 14.5,9.5,8.0,6.5; Logic: True; Sub-Family: Non-Inverting Buffer/Driver; Special Features: 1.8V to 3.3V Up Translation,3.3V to 1.8V Down Translation,5V Input Tolerant; 3-State Output: Yes; DatasheetVersion: SCLS745A; PackageReference: DCK0005A; Supplier 1: Mouser; Supplier Part Number 1: 595-SN74LV1T125DCKR; Supplier 2: Digi-Key; Supplier Part Number 2: 296-37173-2-ND; Supplier 3: Digi-Key; Supplier Part Number 3: 296-37173-1-ND; Supplier 4: Digi-Key; Supplier Part Number 4: 296-37173-6-ND; Operating Temperature Range(C): -40 to 125; ComponentLink1Description: Manufacturer URL; ComponentLink1URL: http://www.ti.com/; ComponentLink2Description: Datasheet; ComponentLink2URL: http://www.ti.com/lit/ds/symlink/sn74lv1t125.pdf
footprint DCK0005A_N (SOT23, 5-Leads, Body 2.15x1.4mm, Pitch 0.65mm, IPC Medium Density)
footprint DCK0005A_M (SOT23, 5-Leads, Body 2.15x1.4mm, Pitch 0.65mm, IPC Low Density)
footprint DCK0005A_L (SOT23, 5-Leads, Body 2.15x1.4mm, Pitch 0.65mm, IPC High Density)
part A pins: 1 ~{OE} (in), 2 A (in), 4 Y (hiz)
part B pins: 3 GND (power), 5 VCC (power)

## SN74LV1T126DBVR
designator U?
Single Power Supply, Single BUFFER GATE w/ 3-State Output (active high enable), DBV0005A, LARGE T&R; Generic Part Number: SN74LV1T126; Manufacturer: Texas Instruments; PartNumber: SN74LV1T126DBVR; VCC(Min)(V): 1.6; VCC(Max)(V): 5.5; Output Type: CMOS; ICC @ Nom Voltage(Max)(mA): 0.01; Input Type: TTL; Bits(#): 1; F @ Nom Voltage(Max)(Mhz): 50; Rating: Catalog; Technology Family: LV1T; Voltage(Nom)(V): 1.8,2.5,3.3,5.5; Schmitt Trigger: No; Output Drive (IOL/IOH)(Max)(mA): 8/-8; tpd @ Nom Voltage(Max)(ns): 14.5,9.5,8.0,6.5; Logic: True; Sub-Family: Non-Inverting Buffer/Driver; Special Features: 1.8V to 3.3V Up Translation,3.3V to 1.8V Down Translation,5V Input Tolerant; 3-State Output: Yes; DatasheetVersion: SCLS744A; PackageReference: DBV0005A; Supplier 1: Mouser; Supplier Part Number 1: 595-SN74LV1T126DBVR; Supplier 2: Digi-Key; Supplier Part Number 2: 296-37174-2-ND; Supplier 3: Digi-Key; Supplier Part Number 3: 296-37174-1-ND; Supplier 4: Digi-Key; Supplier Part Number 4: 296-37174-6-ND; Operating Temperature Range(C): -40 to 125; ComponentLink1Description: Manufacturer URL; ComponentLink1URL: http://www.ti.com/; ComponentLink2Description: Datasheet; ComponentLink2URL: http://www.ti.com/lit/ds/symlink/sn74lv1t126.pdf
footprint DBV0005A_N (SOT23, 5-Leads, Body 3.05x1.75mm, Pitch 0.95mm, IPC Medium Density)
footprint DBV0005A_M (SOT23, 5-Leads, Body 3.05x1.75mm, Pitch 0.95mm, IPC Low Density)
footprint DBV0005A_L (SOT23, 5-Leads, Body 3.05x1.75mm, Pitch 0.95mm, IPC High Density)
part A pins: 1 OE (in), 2 A (in), 4 Y (hiz)
part B pins: 3 GND (power), 5 VCC (power)

## SN74LV1T126DCKR
designator U?
Single Power Supply, Single BUFFER GATE w/ 3-State Output (active high enable), DCK0005A, LARGE T&R; Generic Part Number: SN74LV1T126; Manufacturer: Texas Instruments; PartNumber: SN74LV1T126DCKR; VCC(Min)(V): 1.6; VCC(Max)(V): 5.5; Output Type: CMOS; ICC @ Nom Voltage(Max)(mA): 0.01; Input Type: TTL; Bits(#): 1; F @ Nom Voltage(Max)(Mhz): 50; Rating: Catalog; Technology Family: LV1T; Voltage(Nom)(V): 1.8,2.5,3.3,5.5; Schmitt Trigger: No; Output Drive (IOL/IOH)(Max)(mA): 8/-8; tpd @ Nom Voltage(Max)(ns): 14.5,9.5,8.0,6.5; Logic: True; Sub-Family: Non-Inverting Buffer/Driver; Special Features: 1.8V to 3.3V Up Translation,3.3V to 1.8V Down Translation,5V Input Tolerant; 3-State Output: Yes; DatasheetVersion: SCLS744A; PackageReference: DCK0005A; Supplier 1: Mouser; Supplier Part Number 1: 595-SN74LV1T126DCKR; Supplier 2: Digi-Key; Supplier Part Number 2: 296-37175-2-ND; Supplier 3: Digi-Key; Supplier Part Number 3: 296-37175-1-ND; Supplier 4: Digi-Key; Supplier Part Number 4: 296-37175-6-ND; Operating Temperature Range(C): -40 to 125; ComponentLink1Description: Manufacturer URL; ComponentLink1URL: http://www.ti.com/; ComponentLink2Description: Datasheet; ComponentLink2URL: http://www.ti.com/lit/ds/symlink/sn74lv1t126.pdf
footprint DCK0005A_N (SOT23, 5-Leads, Body 2.15x1.4mm, Pitch 0.65mm, IPC Medium Density)
footprint DCK0005A_M (SOT23, 5-Leads, Body 2.15x1.4mm, Pitch 0.65mm, IPC Low Density)
footprint DCK0005A_L (SOT23, 5-Leads, Body 2.15x1.4mm, Pitch 0.65mm, IPC High Density)
part A pins: 1 OE (in), 2 A (in), 4 Y (hiz)
part B pins: 3 GND (power), 5 VCC (power)

## SN74LV4T125PWR
designator U?
Single Power Supply Quadruple Buffer GATE w/ 3-State Output CMOS Logic Level Shifter, PW0014A, LARGE T&R; Generic Part Number: SN74LV4T125; Manufacturer: Texas Instruments; PartNumber: SN74LV4T125PWR; VCC(Min)(V): 1.6; VCC(Max)(V): 5.5; Logic: True; ICC @ Nom Voltage(Max)(mA): 0.02; Input Type: CMOS/TTL; Bits(#): 4; F @ Nom Voltage(Max)(Mhz): 50; Rating: Catalog; Technology Family: LV-A; Voltage(Nom)(V): 1.8,2.5,3.3,5; Schmitt Trigger: No; Output Drive (IOL/IOH)(Max)(mA): 16/-16; Sub-Family: Single Supply Translator; 3-State Output: Yes; tpd @ Nom Voltage(Max)(ns): 12,7,5.5,3.5; DatasheetVersion: SCLS749B; PackageReference: PW0014A; Supplier 1: Mouser; Supplier Part Number 1: 595-SN74LV4T125PWR; Supplier 2: Digi-Key; Supplier Part Number 2: 296-40545-2-ND; Supplier 3: Digi-Key; Supplier Part Number 3: 296-40545-1-ND; Supplier 4: Digi-Key; Supplier Part Number 4: 296-40545-6-ND; Output Type: CMOS; Operating Temperature Range(C): -40 to 125; ComponentLink1Description: Manufacturer URL; ComponentLink1URL: http://www.ti.com/; ComponentLink2Description: Datasheet; ComponentLink2URL: http://www.ti.com/lit/ds/symlink/sn74lv4t125.pdf
footprint PW0014A_N (SOP, 14-Leads, Body 5.1x4.5mm, Pitch 0.65mm, IPC Medium Density)
footprint PW0014A_M (SOP, 14-Leads, Body 5.1x4.5mm, Pitch 0.65mm, IPC Low Density)
footprint PW0014A_L (SOP, 14-Leads, Body 5.1x4.5mm, Pitch 0.65mm, IPC High Density)
part A pins: 1 1~{OE} (in) "Enable 1", 2 1A (in) "Input 1", 3 1Y (hiz) "Output 1"
part B pins: 4 2~{OE} (in) "Enable 2", 5 2A (in) "Input 2", 6 2Y (hiz) "Output 2"
part C pins: 8 3Y (hiz) "Output 3", 9 3A (in) "Input 3", 10 3~{OE} (in) "Enable 3"
part D pins: 11 4Y (hiz) "Output 4", 12 4A (in) "Input 4", 13 4~{OE} (in) "Enable 4"
part E pins: 7 GND (power) "Ground Pin", 14 VCC (power) "Power Pin"

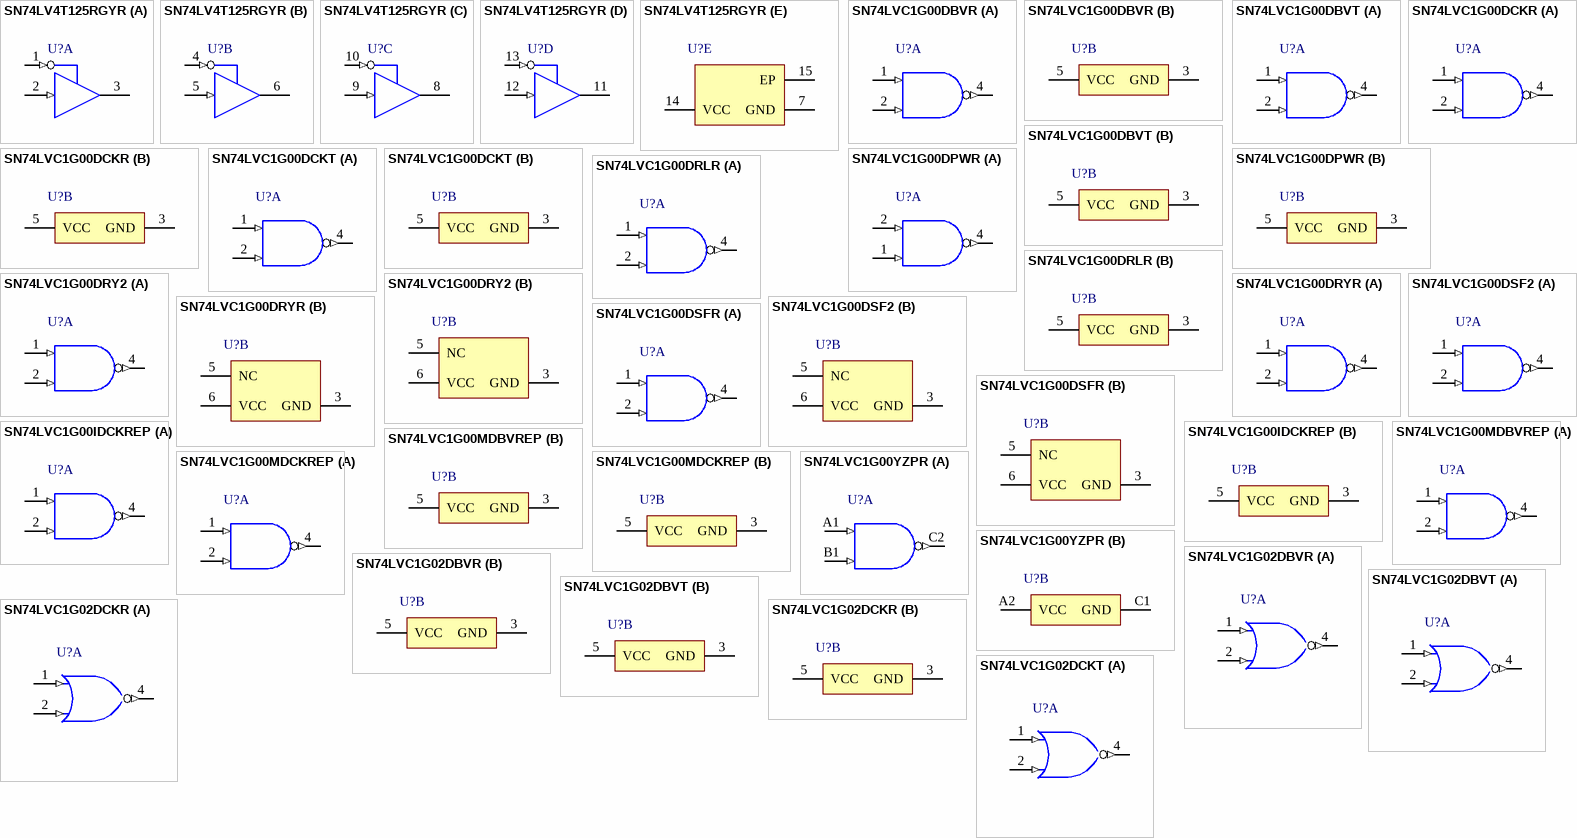
[diagram p33: symbols SN74LV4T125RGYR to SN74LVC1G02DCKT]

## SN74LV4T125RGYR
designator U?
Single Power Supply Quadruple Buffer GATE w/ 3-State Output CMOS Logic Level Shifter, RGY0014A, LARGE T&R; Generic Part Number: SN74LV4T125; Manufacturer: Texas Instruments; PartNumber: SN74LV4T125RGYR; VCC(Min)(V): 1.6; VCC(Max)(V): 5.5; Logic: True; ICC @ Nom Voltage(Max)(mA): 0.02; Input Type: CMOS/TTL; Bits(#): 4; F @ Nom Voltage(Max)(Mhz): 50; Rating: Catalog; Technology Family: LV-A; Voltage(Nom)(V): 1.8,2.5,3.3,5; Schmitt Trigger: No; Output Drive (IOL/IOH)(Max)(mA): 16/-16; Sub-Family: Single Supply Translator; 3-State Output: Yes; tpd @ Nom Voltage(Max)(ns): 12,7,5.5,3.5; DatasheetVersion: SCLS749B; PackageReference: RGY0014A; Supplier 1: Mouser; Supplier Part Number 1: 595-SN74LV4T125RGYR; Supplier 2: Digi-Key; Supplier Part Number 2: 296-40546-2-ND; Supplier 3: Digi-Key; Supplier Part Number 3: 296-40546-1-ND; Supplier 4: Digi-Key; Supplier Part Number 4: 296-40546-6-ND; Output Type: CMOS; Operating Temperature Range(C): -40 to 125; ComponentLink1Description: Manufacturer URL; ComponentLink1URL: http://www.ti.com/; ComponentLink2Description: Datasheet; ComponentLink2URL: http://www.ti.com/lit/ds/symlink/sn74lv4t125.pdf
footprint RGY0014A_V (QFN, 14-Leads, Body 3.5x3.5mm, Thermal Pad 2.05x2.05mm, TI Recommend)
part A pins: 1 1~{OE} (in) "Output Enable 1", 2 1A (in) "1A Input", 3 1Y (hiz) "1Y Output"
part B pins: 4 2~{OE} (in) "Output Enable 2", 5 2A (in) "2A Input", 6 2Y (hiz) "2Y Output"
part C pins: 8 3Y (hiz) "3Y Output", 9 3A (in) "3A Input", 10 3~{OE} (in) "Output Enable 3"
part D pins: 11 4Y (hiz) "4Y Output", 12 4A (in) "4A Input", 13 4~{OE} (in) "Output Enable 4"
part E pins: 7 GND (power) "Ground Pin", 14 VCC (power) "Power Pin", 15 EP

## SN74LVC1G00DBVR
designator U?
Single 2 Input Positive NAND Gate, DBV0005A, LARGE T&R; Generic Part Number: SN74LVC1G00; Manufacturer: Texas Instruments; PartNumber: SN74LVC1G00DBVR; VCC(Min)(V): 1.65; VCC(Max)(V): 5.5; Output Type: CMOS; ICC @ Nom Voltage(Max)(mA): 0.01; Input Type: CMOS/TTL; Bits(#): 1; F @ Nom Voltage(Max)(Mhz): 150; Rating: Catalog; Technology Family: LVC; Voltage(Nom)(V): 1.8,2.5,3.3,5; Schmitt Trigger: No; Output Drive (IOL/IOH)(Max)(mA): 32/-32; tpd @ Nom Voltage(Max)(ns): 9,5.5,4.7,4; Logic: True; DatasheetVersion: SCES212AB; PackageReference: DBV0005A; Supplier 1: Mouser; Supplier Part Number 1: 595-SN74LVC1G00DBVR; Supplier 2: Digi-Key; Supplier Part Number 2: 296-9845-2-ND; Supplier 3: Digi-Key; Supplier Part Number 3: 296-9845-1-ND; Supplier 4: Digi-Key; Supplier Part Number 4: 296-9845-6-ND; Operating Temperature Range(C): -40 to 125,-40 to 85; Gate Type: NAND; Sub-Family: NAND Gate; 3-State Output: No; ComponentLink1Description: Manufacturer URL; ComponentLink1URL: http://www.ti.com/; ComponentLink2Description: Datasheet; ComponentLink2URL: http://www.ti.com/lit/ds/symlink/sn74lvc1g00.pdf
footprint DBV0005A_N (SOT23, 5-Leads, Body 3.05x1.75mm, Pitch 0.95mm, IPC Medium Density)
footprint DBV0005A_M (SOT23, 5-Leads, Body 3.05x1.75mm, Pitch 0.95mm, IPC Low Density)
footprint DBV0005A_L (SOT23, 5-Leads, Body 3.05x1.75mm, Pitch 0.95mm, IPC High Density)
part A pins: 1 A (in) "Input A", 2 B (in) "Input B", 4 Y (out) "Output Y"
part B pins: 3 GND (power) "Ground Pin", 5 VCC (power) "Power Pin"

## SN74LVC1G00DBVT
designator U?
Single 2 Input Positive NAND Gate, DBV0005A, SMALL T&R; Generic Part Number: SN74LVC1G00; Manufacturer: Texas Instruments; PartNumber: SN74LVC1G00DBVT; VCC(Min)(V): 1.65; VCC(Max)(V): 5.5; Output Type: CMOS; ICC @ Nom Voltage(Max)(mA): 0.01; Input Type: CMOS/TTL; Bits(#): 1; F @ Nom Voltage(Max)(Mhz): 150; Rating: Catalog; Technology Family: LVC; Voltage(Nom)(V): 1.8,2.5,3.3,5; Schmitt Trigger: No; Output Drive (IOL/IOH)(Max)(mA): 32/-32; tpd @ Nom Voltage(Max)(ns): 9,5.5,4.7,4; Logic: True; DatasheetVersion: SCES212AB; PackageReference: DBV0005A; Supplier 1: Mouser; Supplier Part Number 1: 595-SN74LVC1G00DBVT; Supplier 2: Digi-Key; Supplier Part Number 2: 296-32286-2-ND; Supplier 3: Digi-Key; Supplier Part Number 3: 296-32286-1-ND; Supplier 4: Digi-Key; Supplier Part Number 4: 296-32286-6-ND; Operating Temperature Range(C): -40 to 125,-40 to 85; Gate Type: NAND; Sub-Family: NAND Gate; 3-State Output: No; ComponentLink1Description: Manufacturer URL; ComponentLink1URL: http://www.ti.com/; ComponentLink2Description: Datasheet; ComponentLink2URL: http://www.ti.com/lit/ds/symlink/sn74lvc1g00.pdf
footprint DBV0005A_N (SOT23, 5-Leads, Body 3.05x1.75mm, Pitch 0.95mm, IPC Medium Density)
footprint DBV0005A_M (SOT23, 5-Leads, Body 3.05x1.75mm, Pitch 0.95mm, IPC Low Density)
footprint DBV0005A_L (SOT23, 5-Leads, Body 3.05x1.75mm, Pitch 0.95mm, IPC High Density)
part A pins: 1 A (in) "Input A", 2 B (in) "Input B", 4 Y (out) "Output Y"
part B pins: 3 GND (power) "Ground Pin", 5 VCC (power) "Power Pin"

## SN74LVC1G00DCKR
designator U?
Single 2 Input Positive NAND Gate, DCK0005A, LARGE T&R; Generic Part Number: SN74LVC1G00; Manufacturer: Texas Instruments; PartNumber: SN74LVC1G00DCKR; VCC(Min)(V): 1.65; VCC(Max)(V): 5.5; Output Type: CMOS; ICC @ Nom Voltage(Max)(mA): 0.01; Input Type: CMOS/TTL; Bits(#): 1; F @ Nom Voltage(Max)(Mhz): 150; Rating: Catalog; Technology Family: LVC; Voltage(Nom)(V): 1.8,2.5,3.3,5; Schmitt Trigger: No; Output Drive (IOL/IOH)(Max)(mA): 32/-32; tpd @ Nom Voltage(Max)(ns): 9,5.5,4.7,4; Logic: True; DatasheetVersion: SCES212AB; PackageReference: DCK0005A; Supplier 1: Mouser; Supplier Part Number 1: 595-SN74LVC1G00DCKR; Supplier 2: Digi-Key; Supplier Part Number 2: 296-9846-2-ND; Supplier 3: Digi-Key; Supplier Part Number 3: 296-9846-1-ND; Supplier 4: Digi-Key; Supplier Part Number 4: 296-9846-6-ND; Operating Temperature Range(C): -40 to 125,-40 to 85; Gate Type: NAND; Sub-Family: NAND Gate; 3-State Output: No; ComponentLink1Description: Manufacturer URL; ComponentLink1URL: http://www.ti.com/; ComponentLink2Description: Datasheet; ComponentLink2URL: http://www.ti.com/lit/ds/symlink/sn74lvc1g00.pdf
footprint DCK0005A_N (SOT23, 5-Leads, Body 2.15x1.4mm, Pitch 0.65mm, IPC Medium Density)
footprint DCK0005A_M (SOT23, 5-Leads, Body 2.15x1.4mm, Pitch 0.65mm, IPC Low Density)
footprint DCK0005A_L (SOT23, 5-Leads, Body 2.15x1.4mm, Pitch 0.65mm, IPC High Density)
part A pins: 1 A (in) "Input A", 2 B (in) "Input B", 4 Y (out) "Output Y"
part B pins: 3 GND (power) "Ground Pin", 5 VCC (power) "Power Pin"